# EAGLE library part EMBEDDED_SUBSYSTEM_V3 (library 000_CustomPartsMaster)
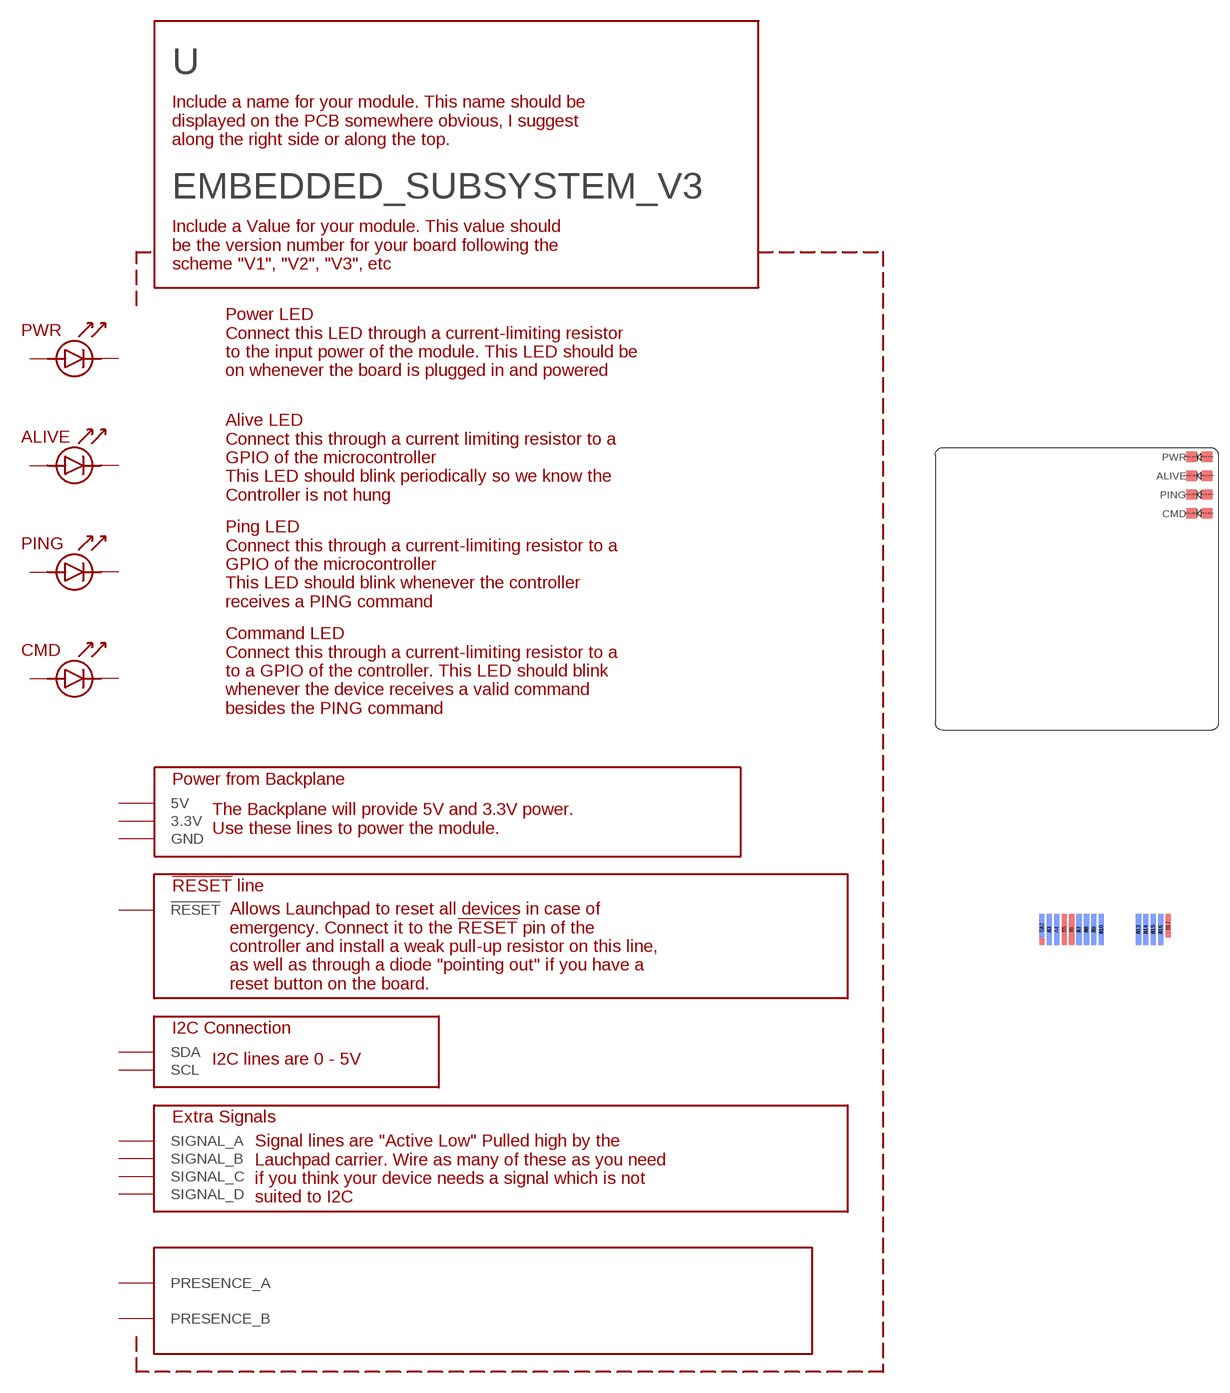
[diagram p22: symbol with the pads of SUBSYSTEM2016_V3-SMALL; footprint SUBSYSTEM2016_V3-SMALL]

Designator prefix -

## EMBEDDED_SUBSYSTEM_V3  [SUBSYSTEM2016_V3-SMALL]
A2  PRESENCE_A  nc
A3  3.3V
A4  3.3V
A7  GND
A8  GND
A9  GND
A10  GND
A13  SIGNAL_C
A14  SIGNAL_C
A15  SIGNAL_D
A16  SIGNAL_D
ALIVELED_ANODE  ALIVELED_ANODE
ALIVELED_CATHODE  ALIVELED_CATHODE
B2  5V
B3  5V
B5  !RESET
B6  !RESET
B7  SDA
B8  SDA
B9  SCL
B10  SCL
B13  SIGNAL_A
B14  SIGNAL_A
B15  SIGNAL_B
B16  SIGNAL_B
B17  PRESENCE_B
CMDLED_ANODE  CMDLED_ANODE
CMDLED_CATHODE  CMDLED_CATHODE
PINGLED_ANODE  PINGLED_ANODE
PINGLED_CATHODE  PINGLED_CATHODE
PWRLED_ANODE  PWRLED_ANODE
PWRLED_CATHODE  PWRLED_CATHODE

## Footprint SUBSYSTEM2016_V3-SMALL (pad centres in mm)
smd 0.7 x 3.2 bottom: A2 6.73,4.16
smd 0.7 x 4.2 bottom: A3 7.73,3.66; A4 8.73,3.66; A7 11.73,3.66; A8 12.73,3.66; A9 13.73,3.66; A10 14.73,3.66; A13 19.73,3.66; A14 20.73,3.66; A15 21.73,3.66; A16 22.73,3.66
smd 1.45 x 1.4: ALIVELED_ANODE 28.977,64.77; ALIVELED_CATHODE 26.877,64.77; CMDLED_ANODE 28.977,59.69; CMDLED_CATHODE 26.877,59.69; PINGLED_ANODE 28.977,62.23; PINGLED_CATHODE 26.877,62.23; PWRLED_ANODE 28.977,67.31; PWRLED_CATHODE 26.877,67.31
smd 0.7 x 4.2: B2 6.73,3.66; B3 7.73,3.66; B5 9.73,3.66; B6 10.73,3.66; B7 11.73,3.66; B8 12.73,3.66; B9 13.73,3.66; B10 14.73,3.66; B13 19.73,3.66; B14 20.73,3.66; B15 21.73,3.66; B16 22.73,3.66
smd 0.7 x 3.2: B17 23.73,4.16